# Altium schematic symbol library probe.SchLib: 1 symbol
Pins are listed as number, name and electrical type; pins without a type are passive.

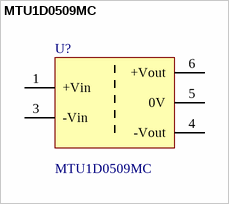
[diagram p0: symbol MTU1D0509MC]

## MTU1D0509MC
designator U?  value MTU1D0509MC
Isolated DC/DC 1W 5-> +/-9V; Manufacturer: Murata; Distributor: Digikey; Distributor PartN: 811-2376-ND; Manufacturer PartN: MTU1D0509MC; DistributorAlt PartN: N/A; DistributorAlt: N/A; Parameters: Isolated DC/DC 1W 5-> +/-9V
pins: 1 +Vin (power), 3 -Vin (power), 4 -Vout (power), 5 0V (power), 6 +Vout (power)